# Altium footprint library MP2637GR-Z.PcbLib: 1 footprints
Each footprint in its own frame and in the unit in brackets; x right, y up, seen from the top. Pads: shape width x height; smd on the part's side, far side on the other; paste and mask are expansions set on the pad; w line width, h text height; cw(c..) or ccw(c..) is an arc to the next point about the centre after c.
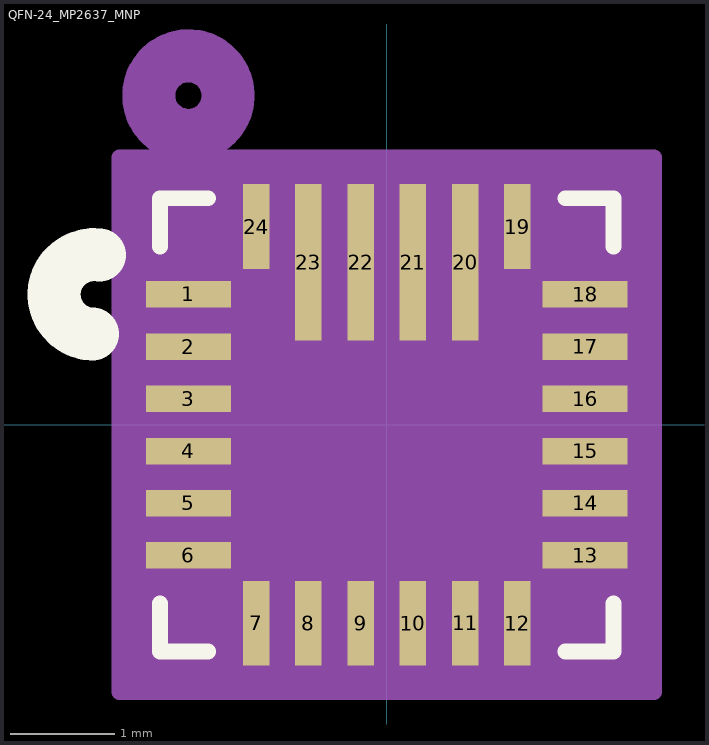
[diagram p0: the footprint, top view; thin cyan lines are the x and y axes]

## QFN-24_MP2637_MNP [mil]
pads (24):
  rect 32x10 smd paste+0 mask+0: 1(-74.8,49.21) 2(-74.8,29.53) 3(-74.8,9.84) 4(-74.8,-9.84) 5(-74.8,-29.53) 6(-74.8,-49.21) 13(74.8,-49.21) 14(74.8,-29.53) 15(74.8,-9.84) 16(74.8,9.84) 17(74.8,29.53) 18(74.8,49.21)
  rect 10x32 smd paste+0 mask+0: 7(-49.21,-74.8) 8(-29.53,-74.8) 9(-9.84,-74.8) 10(9.84,-74.8) 11(29.53,-74.8) 12(49.21,-74.8) 19(49.21,74.8) 24(-49.21,74.8)
  rect 10x59 smd paste+0 mask+0: 20(29.53,61.3) 21(9.84,61.3) 22(-9.84,61.3) 23(-29.53,61.3)
Top Overlay:
  lines w6: -85.5,-67.31 -85.5,-85.5 -67.31,-85.5 ; -85.5,67.31 -85.5,85.5 -67.31,85.5 ; 67.31,-85.5 85.5,-85.5 85.5,-67.31 ; 67.31,85.5 85.5,85.5 85.5,67.31
  lines w20: -110.9,34.22 cw(c-110.5,49.21) -108.33,64.05
Bottom Overlay:
  circle w20: c-110.5,49.21 r15
Mechanical 13:
  circle w20: c-74.8,124.21 r15
  lines w1: -80.5,-80.5 80.5,-80.5 80.5,80.5 -80.5,80.5 -80.5,-80.5
Mechanical 15:
  region: 100.8,100.8 -100.8,100.8 -100.8,-100.8 100.8,-100.8
  lines w6: -100.8,-100.8 -100.8,100.8 100.8,100.8 100.8,-100.8 -100.8,-100.8